# Altium schematic symbol library 便携T12烙铁.SchLib: 16 symbols
Pins are listed as number, name and electrical type; pins without a type are passive.

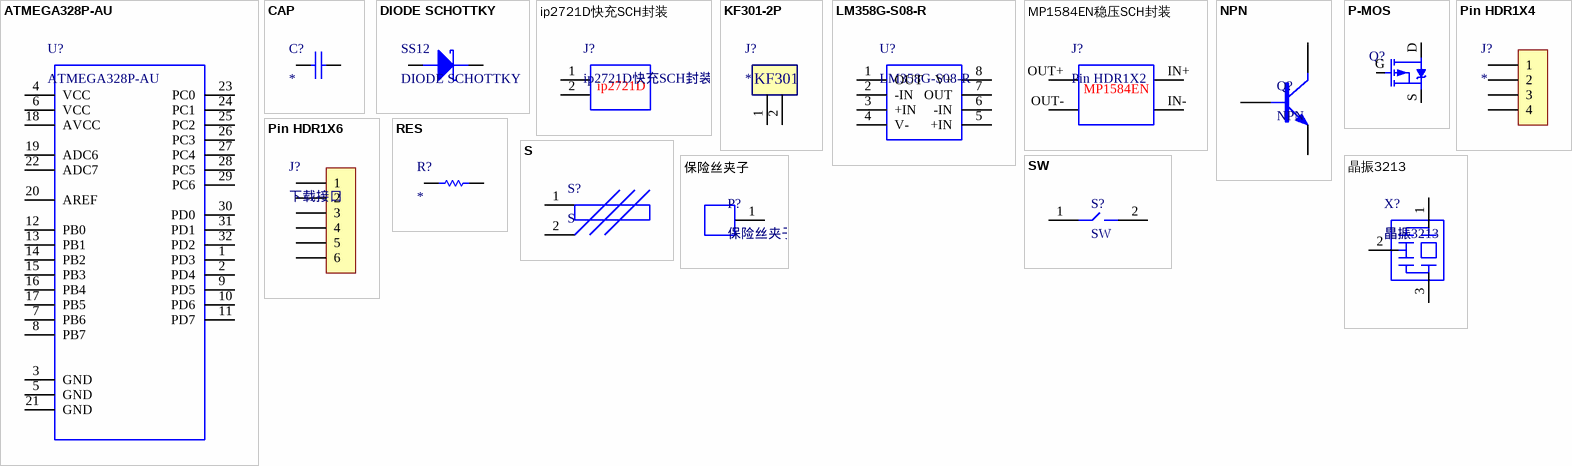
[diagram p0: symbols ATMEGA328P-AU to 晶振3213]

## ATMEGA328P-AU
designator U?
footprint TQFP32 7x7_M (32脚，体宽：7x7mm, 脚距：0.8mm)
pins: 1 PD3, 2 PD4, 3 GND, 4 VCC, 5 GND, 6 VCC, 7 PB6, 8 PB7, 9 PD5, 10 PD6, 11 PD7, 12 PB0, 13 PB1, 14 PB2, 15 PB3, 16 PB4, 17 PB5, 18 AVCC, 19 ADC6, 20 AREF, 21 GND, 22 ADC7, 23 PC0, 24 PC1, 25 PC2, 26 PC3, 27 PC4, 28 PC5, 29 PC6, 30 PD0, 31 PD1, 32 PD2

## CAP
designator C?
无极性电容
footprint 0603C
pins: 1, 2

## DIODE SCHOTTKY
designator SS12
肖特基二极管SS12
footprint SMA/DO-214AC (塑封二极管)
pins: A, K

## ip2721D快充SCH封装
designator J?
footprint ip2721D快充PCB封装
pins: 1 +, 2 -
text: ip2721D

## KF301-2P
designator J?
footprint KF301-5.0-2P (可拼接端子/6A)
pins: 1, 2
text: KF301

## LM358G-S08-R
designator U?
运放
footprint SOP8
pins: 1 OUT, 2 -IN, 3 +IN, 4 V-, 5 +IN, 6 -IN, 7 OUT, 8 V+

## MP1584EN稳压SCH封装
designator J?, comment Pin HDR1X2
MP1584EN稳压SCH封装
footprint MP1584EN稳压PCB封装
pins: IN+, IN-, OUT+, OUT-
text: MP1584EN

## NPN
designator Q?
NPN三极管 / 2SC3356-T1B-A
footprint SOT-23 (三极管)
pins: B, C, E

## P-MOS
designator Q?
P沟道场效应管 / IRF4905STRLPBF
footprint TO263-3B
pins: D, G, S

## Pin HDR1X4
designator J?
0.91 i2c oled
footprint Pin HDR1X4/2.54mm-S
pins: 1, 2, 3, 4

## Pin HDR1X6
designator J?, comment 下载接口
footprint Pin HDR1X6/2.54mm-S
pins: 1, 2, 3, 4, 5, 6

## RES
designator R?
电阻
footprint 0603R
footprint 0805R
pins: 1, 2

## S
designator S?
震动开关 / SW180  建议SW18015
footprint S (震动开关)
pins: 1, 2

## SW
designator S?
侧立按键开关 / 3*6*4.3
footprint TSW 3*6*4.3-S-W (侧立贴片3*6*4.3)
pins: 1 A1, 2

## 保险丝夹子
designator P?
保险丝夹子 / 5X20
footprint FUSE-5x20
pins: 1

## 晶振3213
designator X?
晶振3213 / 16MHz
footprint 晶振3213
pins: 1, 2, 3